# Altium schematic symbol library ERJU02F3600X.SchLib: 1 symbol
Pins are listed as number, name and electrical type; pins without a type are passive.

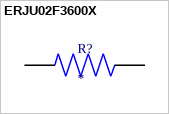
[diagram p0: symbol ERJU02F3600X]

## ERJU02F3600X
designator R?
MP: ERJU02F3600X; Price: None; Value: *; Package: None; Availability: Unavailable
footprint RES_ERJU02F3600X
footprint RES_ERJU02F3600X
pins: 1, 2